# EAGLE library part AT25SF041 (library Lagopus_A_2)
AT25SF041 4Mb Serial Flash Memory 104MHz, SPI, 8-SOIC Datasheet <http://www.adestotech.com/wp-content/uploads/DS-AT25SF041_044.pdf> SparkFun Products: SparkFun ESP8266 Thing <https://www.sparkfun.com/products/13231> SparkFun ESP8266 Thing - Dev Board <https://www.sparkfun.com/products/13711>
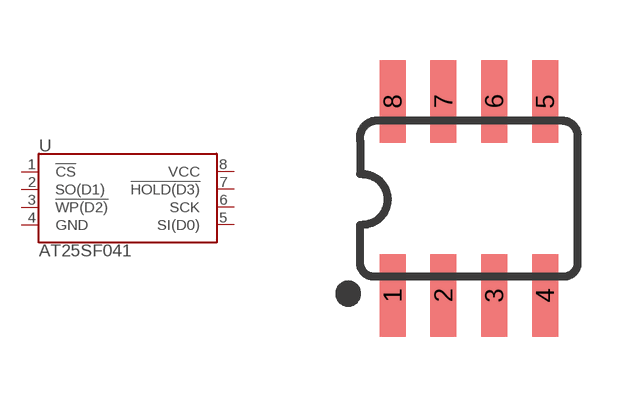
[diagram p4: symbol with the pads of SO08; footprint SO08]

Designator prefix U

## AT25SF041 (PROD_ID: IC-12455; VALUE: 4MB Flash)  [SO08]
1  !CS
2  SO(D1)
3  !WP(D2)
4  GND
5  SI(D0)
6  SCK
7  !HOLD(D3)
8  VCC

## Footprint SO08 (pad centres in mm)
SOIC, 0.15 inch width
smd 0.65 x 2.07: 1 -1.905,-2.425; 2 -0.635,-2.425; 3 0.635,-2.425; 4 1.905,-2.425; 5 1.905,2.425; 6 0.635,2.425; 7 -0.635,2.425; 8 -1.905,2.425